# EAGLE library part ILQ1 (library optocoupler_sendec)
SIEMENS OPTO COUPLER
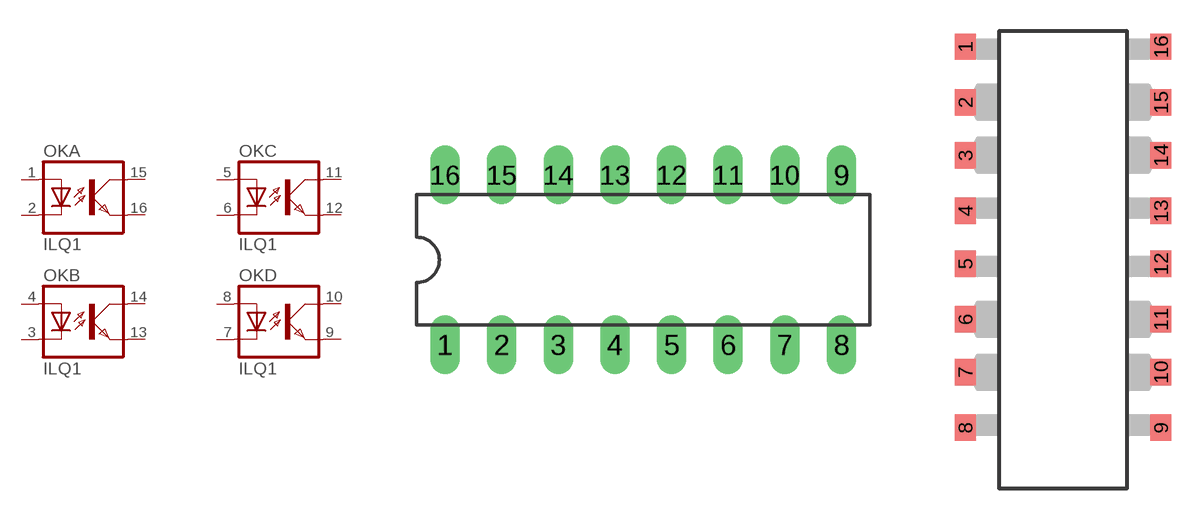
[diagram p0: symbol with the pads of DIL16; footprints DIL16, 16-SMD]

Designator prefix OK; gates A=OK B=OK C=OK D=OK

## ILQ1  [DIL16]
1  A:A  pas
2  A:C  pas
3  B:C  pas
4  B:A  pas
5  C:A  pas
6  C:C  pas
7  D:C  pas
8  D:A  pas
9  D:EMIT  pas
10  D:COL  pas
11  C:COL  pas
12  C:EMIT  pas
13  B:EMIT  pas
14  B:COL  pas
15  A:COL  pas
16  A:EMIT  pas

## ILQ1ILQ-SMD  [16-SMD]
Pads as for DIL16

## Footprint DIL16 (pad centres in mm)
Dual In Line Package
drill 0.813 long: 1 -8.89,-3.81; 2 -6.35,-3.81; 3 -3.81,-3.81; 4 -1.27,-3.81; 5 1.27,-3.81; 6 3.81,-3.81; 7 6.35,-3.81; 8 8.89,-3.81; 9 8.89,3.81; 10 6.35,3.81; 11 3.81,3.81; 12 1.27,3.81; 13 -1.27,3.81; 14 -3.81,3.81; 15 -6.35,3.81; 16 -8.89,3.81

## Footprint 16-SMD (pad centres in mm)
smd 1 x 1.27: 1 -4.69,9.144; 2 -4.69,6.477; 3 -4.69,3.937; 4 -4.69,1.27; 5 -4.69,-1.27; 6 -4.69,-3.937; 7 -4.69,-6.477; 8 -4.69,-9.144; 9 4.69,-9.144; 10 4.69,-6.477; 11 4.69,-3.937; 12 4.69,-1.27; 13 4.69,1.27; 14 4.69,3.937; 15 4.69,6.477; 16 4.69,9.144